# EAGLE library part 52271-0869 (library molex)
CONNECTOR, FPC, 1.0MM, 8 WAY
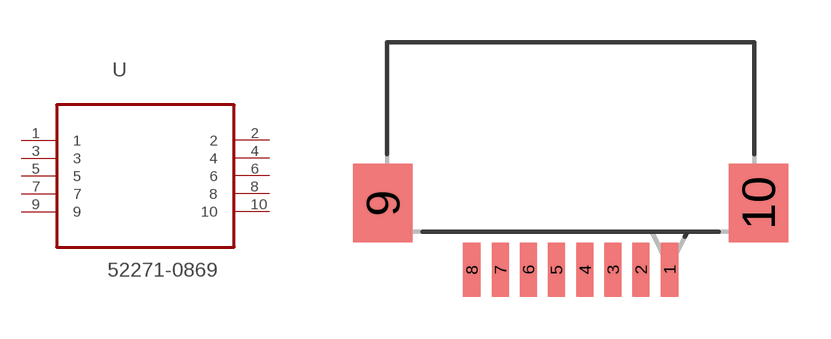
[diagram p11: symbol with the pads of MOLEX_52271-0869; footprint MOLEX_52271-0869]

Designator prefix U

## 52271-0869 (MPN: 52271-0869; OC_FARNELL: 1757089; OC_NEWARK: 92M5938; PACKAGE: CONNECTOR, FPC, 1.0MM, 8 WAY; SUPPLIER: Molex)  [MOLEX_52271-0869]
1  1  pas
2  2  pas
3  3  pas
4  4  pas
5  5  pas
6  6  pas
7  7  pas
8  8  pas
9  9  pas
10  10  pas

## Footprint MOLEX_52271-0869 (pad centres in mm)
smd 0.61 x 1.905: 1 3.505,4.699; 2 2.489,4.699; 3 1.499,4.699; 4 0.508,4.699; 5 -0.508,4.699; 6 -1.499,4.699; 7 -2.489,4.699; 8 -3.505,4.699
smd 2.108 x 2.794: 9 -6.655,7.061; 10 6.655,7.061